# Altium footprint library WRIS-KSKE.PcbLib: 6 footprints
Each footprint in its own frame and in the unit in brackets; x right, y up, seen from the top. Pads: shape width x height; smd on the part's side, far side on the other; paste and mask are expansions set on the pad; w line width, h text height; cw(c..) or ccw(c..) is an arc to the next point about the centre after c.
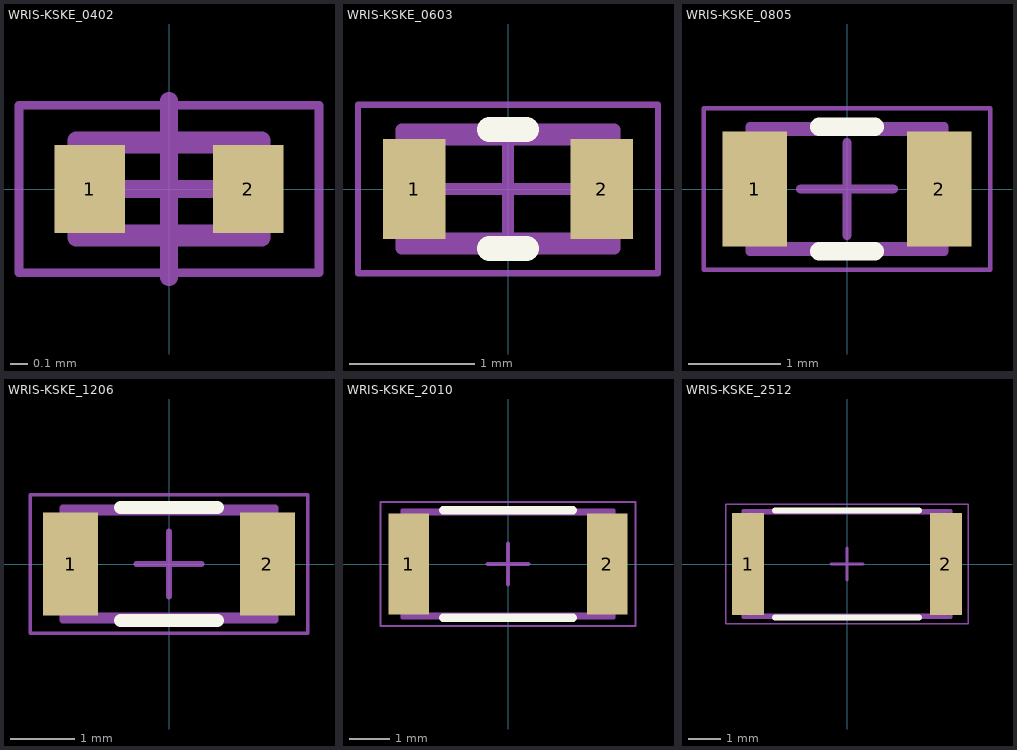
[diagram p0: the footprints below, top view; thin cyan lines are the x and y axes]

## WRIS-KSKE_0402 [mm] "Thick Film Resistors, SMT, body size 1x0.5mm"
height 0.35
pads (2):
  rect 0.4x0.5 smd: 1(-0.45,0) 2(0.45,0)
Top Assembly:
  lines w0.1: -0.525,-0.275 -0.525,0.275 0.525,0.275 0.525,-0.275 -0.525,-0.275
Top Designator:
  text ".Designator" at -3.647,-0.357 h1
Top 3D Body:
  lines w0.1: -0.5,-0.25 -0.5,0.25 0.5,0.25 0.5,-0.25 -0.5,-0.25
Top Courtyard:
  lines w0.05: -0.85,-0.475 -0.85,0.475 0.85,0.475 0.85,-0.475 -0.85,-0.475
Top Component Center:
  lines w0.1: -0.5,0 0.5,0 ; 0,-0.5 0,0.5
3D body "WRIS-KSKE_0402.stp": height 0.35, standoff 0, extent -0.5,-0.25 0.5,0.25

## WRIS-KSKE_0603 [mm] "Thick Film Resistors, SMT, body size 1.6x0.8mm"
height 0.45
pads (2):
  rect 0.5x0.8 smd: 1(-0.75,0) 2(0.75,0)
Top Overlay:
  lines w0.2: -0.15,-0.475 0.15,-0.475 ; -0.15,0.475 0.15,0.475
Top Assembly:
  lines w0.1: -0.85,-0.475 -0.85,0.475 0.85,0.475 0.85,-0.475 -0.85,-0.475
Top Designator:
  text ".Designator" at -3.647,-0.357 h1
Top 3D Body:
  lines w0.1: -0.8,-0.4 -0.8,0.4 0.8,0.4 0.8,-0.4 -0.8,-0.4
Top Courtyard:
  lines w0.05: -1.2,-0.675 -1.2,0.675 1.2,0.675 1.2,-0.675 -1.2,-0.675
Top Component Center:
  lines w0.1: -0.5,0 0.5,0 ; 0,-0.5 0,0.5
3D body "WRIS-KSKE_0603.stp": height 0.45, standoff 0, extent -0.8,-0.4 0.8,0.4

## WRIS-KSKE_0805 [mm] "Thick Film Resistors, SMT, body size 2x1.25mm"
height 0.6
pads (2):
  rect 0.7x1.25 smd: 1(-1,0) 2(1,0)
Top Overlay:
  lines w0.2: -0.3,-0.675 0.3,-0.675 ; -0.3,0.675 0.3,0.675
Top Assembly:
  lines w0.1: -1.05,-0.675 -1.05,0.675 1.05,0.675 1.05,-0.675 -1.05,-0.675
Top Designator:
  text ".Designator" at -3.647,-0.357 h1
Top 3D Body:
  lines w0.1: -1,-0.625 -1,0.625 1,0.625 1,-0.625 -1,-0.625
Top Courtyard:
  lines w0.05: -1.55,-0.875 -1.55,0.875 1.55,0.875 1.55,-0.875 -1.55,-0.875
Top Component Center:
  lines w0.1: -0.5,0 0.5,0 ; 0,-0.5 0,0.5
3D body "WRIS-KSKE_0805.stp": height 0.6, standoff 0, extent -1,-0.625 1,0.625

## WRIS-KSKE_1206 [mm] "Thick Film Resistors, SMT, body size 3.1x1.6mm"
height 0.6
pads (2):
  rect 0.85x1.6 smd: 1(-1.525,0) 2(1.525,0)
Top Overlay:
  lines w0.2: -0.75,-0.875 0.75,-0.875 ; -0.75,0.875 0.75,0.875
Top Assembly:
  lines w0.1: -1.65,-0.875 1.65,-0.875 1.65,0.875 -1.65,0.875 -1.65,-0.875
Top Designator:
  text ".Designator" at -3.647,-0.357 h1
Top 3D Body:
  lines w0.1: -1.55,-0.8 1.55,-0.8 1.55,0.8 -1.55,0.8 -1.55,-0.8
Top Courtyard:
  lines w0.05: -2.15,-1.075 2.15,-1.075 2.15,1.075 -2.15,1.075 -2.15,-1.075
Top Component Center:
  lines w0.1: -0.5,0 0.5,0 ; 0,-0.5 0,0.5
3D body "WRIS-KSKE_1206.stp": height 0.6, standoff 0, extent -1.55,-0.8 1.55,0.8

## WRIS-KSKE_2010 [mm] "Thick Film Resistors, SMT, body size 5x2.5mm"
height 0.6
pads (2):
  rect 1x2.5 smd: 1(-2.45,0) 2(2.45,0)
Top Overlay:
  lines w0.2: -1.6,-1.325 1.6,-1.325 ; -1.6,1.325 1.6,1.325
Top Assembly:
  lines w0.1: -2.6,-1.325 -2.6,1.325 2.6,1.325 2.6,-1.325 -2.6,-1.325
Top Designator:
  text ".Designator" at -3.647,-0.357 h1
Top 3D Body:
  lines w0.1: -2.5,-1.25 -2.5,1.25 2.5,1.25 2.5,-1.25 -2.5,-1.25
Top Courtyard:
  lines w0.05: -3.15,-1.525 -3.15,1.525 3.15,1.525 3.15,-1.525 -3.15,-1.525
Top Component Center:
  lines w0.1: -0.5,0 0.5,0 ; 0,-0.5 0,0.5
3D body "WRIS-KSKE_2010.stp": height 0.6, standoff 0, extent -2.5,-1.25 2.5,1.25

## WRIS-KSKE_2512 [mm] "Thick Film Resistors, SMT, body size 6.3x3.2mm"
height 0.6
pads (2):
  rect 1x3.2 smd: 1(-3.1,0) 2(3.1,0)
Top Overlay:
  lines w0.2: -2.25,-1.675 2.25,-1.675 ; -2.25,1.675 2.25,1.675
Top Assembly:
  lines w0.1: -3.25,-1.675 3.25,-1.675 3.25,1.675 -3.25,1.675 -3.25,-1.675
Top Designator:
  text ".Designator" at -3.647,-0.357 h1
Top 3D Body:
  lines w0.1: -3.15,-1.6 3.15,-1.6 3.15,1.6 -3.15,1.6 -3.15,-1.6
Top Courtyard:
  lines w0.05: -3.8,-1.875 3.8,-1.875 3.8,1.875 -3.8,1.875 -3.8,-1.875
Top Component Center:
  lines w0.1: -0.5,0 0.5,0 ; 0,-0.5 0,0.5
3D body "WRIS-KSKE_2512.stp": height 0.6, standoff 0, extent -3.15,-1.6 3.15,1.6